# EAGLE library part WE-VDRM-171021501 (library Wurth_Elektronik_SemiConductors_rev17a)
MagI³C Power Module VDRM - Variable Step Down Regulator Module 7 – 50V / 2.5A / 2.5 – 15V Output <http://katalog.we-online.de/media/images/v2/MagIC_VDRM_pf2(3).jpg> Details see: http://katalog.we-online.de/pm/datasheet/171021501.pdf Updated on 2014-07-11 2014 (C) Würth Elektronik
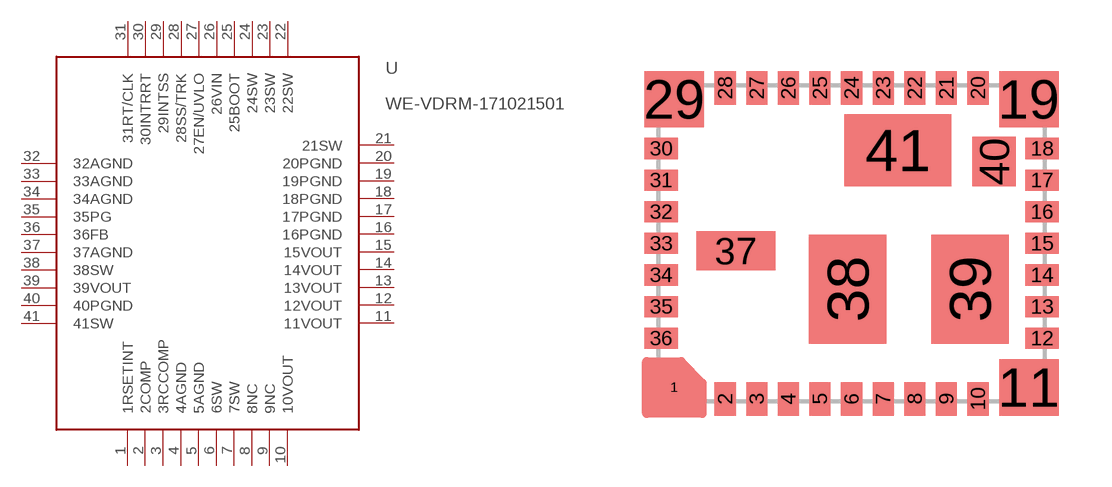
[diagram p4: symbol with the pads of BQFN-41_171021501; footprint BQFN-41_171021501]

Designator prefix U

## WE-VDRM-171021501  [BQFN-41_171021501]
1  1RSETINT
2  2COMP
3  3RCCOMP
4  4AGND
5  5AGND
6  6SW
7  7SW
8  8NC
9  9NC
10  10VOUT
11  11VOUT
12  12VOUT
13  13VOUT
14  14VOUT
15  15VOUT
16  16PGND
17  17PGND
18  18PGND
19  19PGND
20  20PGND
21  21SW
22  22SW
23  23SW
24  24SW
25  25BOOT
26  26VIN
27  27EN/UVLO
28  28SS/TRK
29  29INTSS
30  30INTRRT
31  31RT/CLK
32  32AGND
33  33AGND
34  34AGND
35  35PG
36  36FB
37  37AGND
38  38SW
39  39VOUT
40  40PGND
41  41SW

## Footprint BQFN-41_171021501 (pad centres in mm)
smd 0.813 x 0.406: 1 -5.05,-4.1
smd 0.6 x 0.95: 2 -3.6,-4.425; 3 -2.7,-4.425; 4 -1.8,-4.425; 5 -0.9,-4.425; 6 0,-4.425; 7 0.9,-4.425; 8 1.8,-4.425; 9 2.7,-4.425; 10 3.6,-4.425; 20 3.6,4.425; 21 2.7,4.425; 22 1.8,4.425; 23 0.9,4.425; 24 0,4.425; 25 -0.9,4.425; 26 -1.8,4.425; 27 -2.7,4.425; 28 -3.6,4.425
smd 1.7 x 1.6: 11 5.05,-4.1; 19 5.05,4.1; 29 -5.05,4.1
smd 0.95 x 0.6: 12 5.425,-2.7; 13 5.425,-1.8; 14 5.425,-0.9; 15 5.425,0; 16 5.425,0.9; 17 5.425,1.8; 18 5.425,2.7; 30 -5.425,2.7; 31 -5.425,1.8; 32 -5.425,0.9; 33 -5.425,0; 34 -5.425,-0.9; 35 -5.425,-1.8; 36 -5.425,-2.7
smd 2.25 x 1.1: 37 -3.3,-0.21
smd 2.2 x 3.1: 38 -0.11,-1.3; 39 3.37,-1.3
smd 1.24 x 1.4: 40 4.06,2.33
smd 3.05 x 2.04: 41 1.32,2.65